# Altium schematic symbol library BTS3205G.SchLib: 1 symbol
Pins are listed as number, name and electrical type; pins without a type are passive.

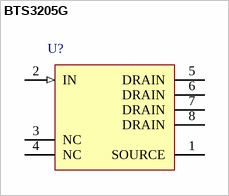
[diagram p0: symbol BTS3205G]

## BTS3205G
designator U?
Smart Low-Side Power Switch, 42 V VDS, 0.6 A ID, -40 to 150 degC, PG-DSO-8-24, Reel, Green; Manufacturer: Infineon; PartNumber: BTS3205G; Channels: 1; Green: TRUE; Group: HITFET; ID(nom): 0.35 A; ID(lim) (min): 0.6 A; Ptot (max): 0.78 W; RDS (on)(max): 700 mOhm; ton (max): 38 us; toff (max): 45 us; VDS (max): 42 V; DatasheetVersion: Rev. 1.1; PackageVersion: May-07; PackageReference: PG-DSO-8-24; PackageDescription: 8-Pin Plastic (Green) Dual Small Outline Package, 4.9 x 3.9 mm Body, 1.27 mm Pitch; Supplier 1: Digi-Key; Supplier Part Number 1: BTS3205GTR-ND; Supplier 2: Digi-Key; Supplier Part Number 2: BTS3205GCT-ND; Supplier 3: Digi-Key; Supplier Part Number 3: BTS3205GDKR-ND; Supplier 4: Farnell; Supplier Part Number 4: 2215529; Supplier 5: Newark; Supplier Part Number 5: 47W3384; Supplier 6: Mouser; Supplier Part Number 6: 726-BTS3205G; Halogen-free: TRUE; Packing: Reel; Mounting Technology: Surface Mount; ComponentLink1Description: Manufacturer URL; ComponentLink1URL: http://www.infineon.com/; ComponentLink2Description: Datasheet; ComponentLink2URL: http://www.infineon.com/dgdl/BTS3205G_DS_11.pdf?folderId=db3a3043163797a6011667aa084c0e01&fileId=db3a30431689f4420116d41e5a3c0ca2&location=en.Products.Automotive_ICs.Smart_High-_and_Low-Side_Switches.HITFET___TEMPFET__-_Smart_Low-Side_Switches.DATASHEET.BTS3205G_DS_11.pdf; ComponentLink3Description: Package Specification; ComponentLink3URL: http://www.infineon.com/dgdl/BSP742RI.pdf?folderId=db3a304314dca389011537739e37155f&fileId=db3a304316f112290116f22466b271a6&sId=db3a30433d68e984013d83055b4a7981
footprint INF-PG-DSO-8-24_N (SOP, 8-Leads, Body 4.9x3.9mm, Pitch 1.27mm, IPC Medium Density)
footprint INF-PG-DSO-8-24_L (SOP, 8-Leads, Body 4.9x3.9mm, Pitch 1.27mm, IPC High Density)
footprint INF-PG-DSO-8-24_M (SOP, 8-Leads, Body 4.9x3.9mm, Pitch 1.27mm, IPC Low Density)
pins: 1 SOURCE (power) "Ground connection", 2 IN (in) "Input / Fault feedback", 3 NC "not connection", 4 NC "not connection", 5 DRAIN (power) "Load connection", 6 DRAIN (power) "Load connection", 7 DRAIN (power) "Load connection", 8 DRAIN (power) "Load connection"